# Altium footprint library PCB_Library.PcbLib: 26 footprints (part 1 of 2)
Each footprint in its own frame and in the unit in brackets; x right, y up, seen from the top. Pads: shape width x height; smd on the part's side, far side on the other; paste and mask are expansions set on the pad; w line width, h text height; cw(c..) or ccw(c..) is an arc to the next point about the centre after c.
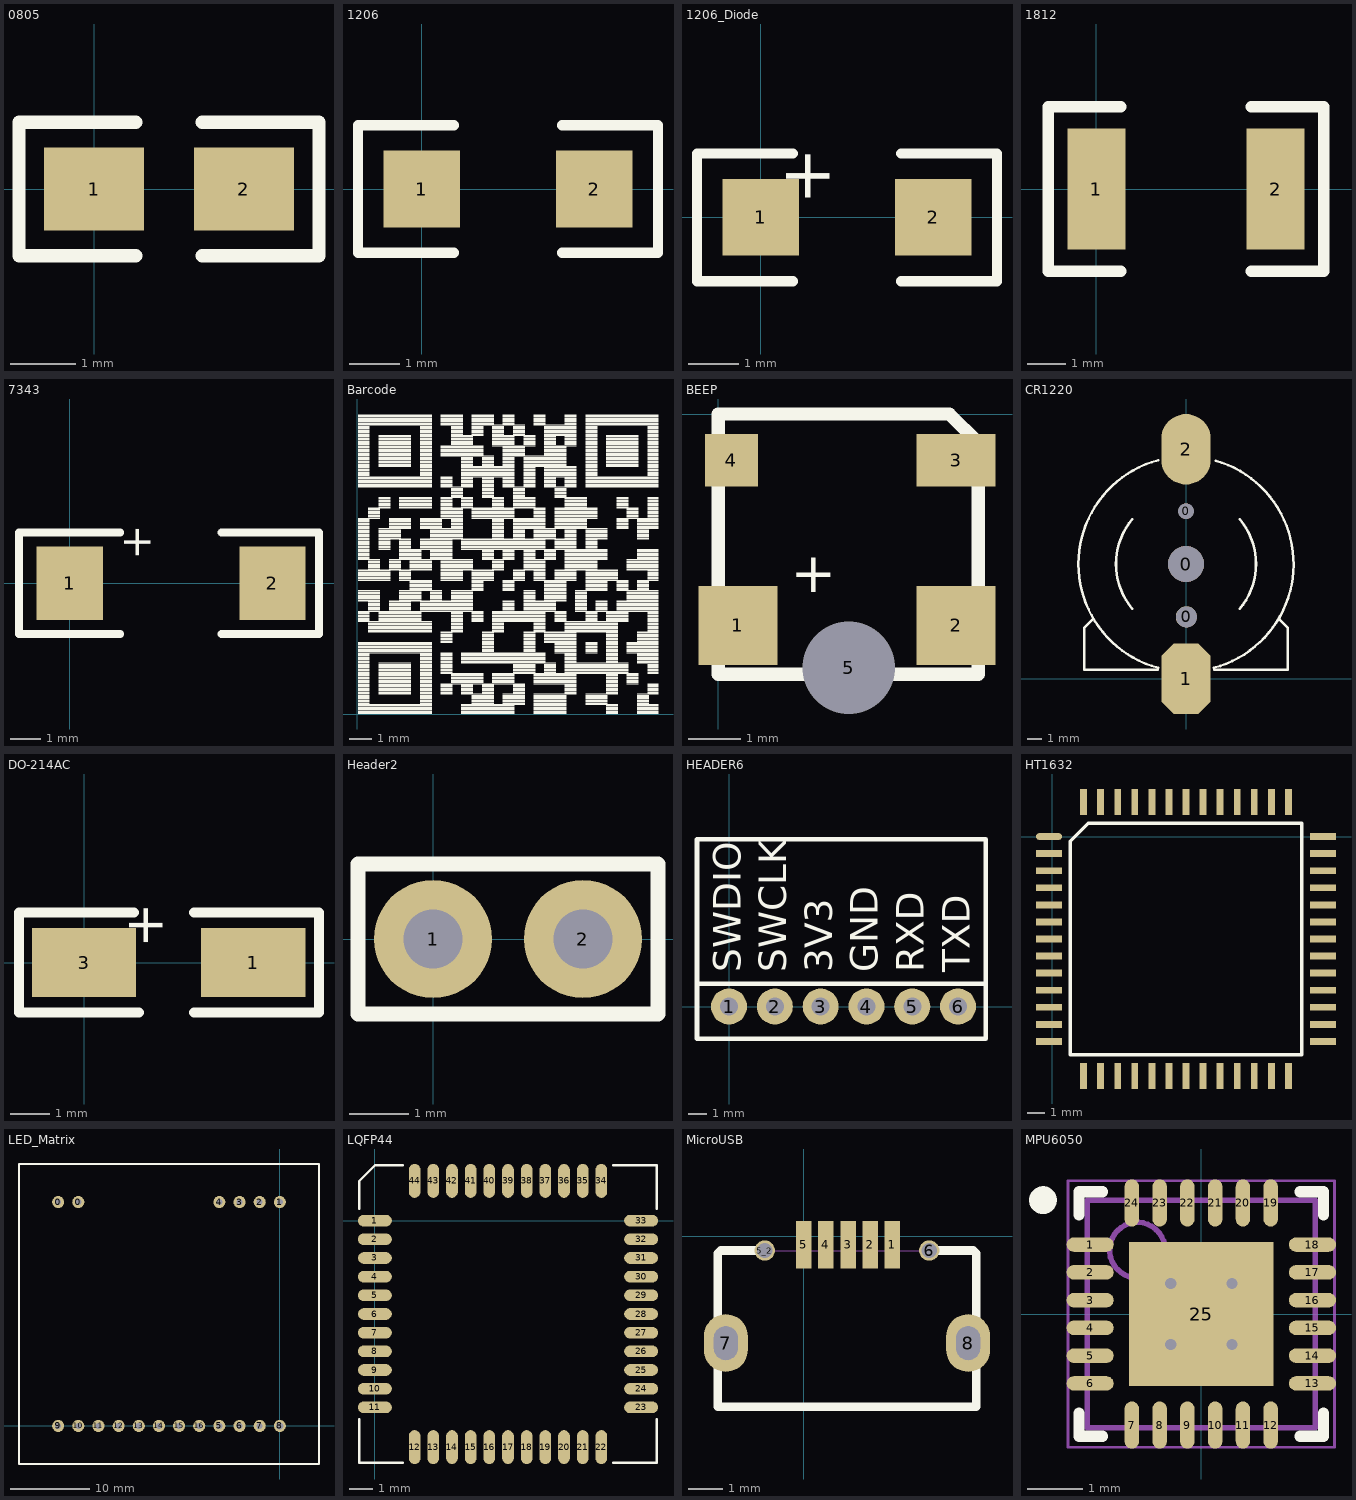
[diagram p0: the footprints below, top view; thin cyan lines are the x and y axes]

## 0805 [mil]
pads (2):
  rect 60x50 smd: 1(0,0) 2(90,0)
Top Overlay:
  lines w8: 25,-40 -45,-40 -45,40 25,40 ; 65,-40 135,-40 135,40 65,40

## 1206 [mil]
pads (2):
  rect 60x60 smd: 1(0,0) 2(135,0)
Top Overlay:
  lines w8: 25,-50 -50,-50 -50,50 25,50 ; 110,-50 185,-50 185,50 110,50

## 1206_Diode [mil]
pads (2):
  rect 60x60 smd: 1(0,0) 2(135,0)
Top Overlay:
  lines w8: 25,-50 -50,-50 -50,50 25,50 ; 110,-50 185,-50 185,50 110,50
  text "+" at 20,55 h39.37

## 1812 [mil]
pads (2):
  rect 60x125 smd: 1(0,0) 2(185,0)
Top Overlay:
  lines w12: 25,-85 -50,-85 -50,85 25,85 ; 160,-85 235,-85 235,85 160,85

## 7343 [mm]
pads (2):
  rect 2.16x2.41 smd: 1(0,0) 2(6.61,0)
Top Overlay:
  lines w0.254: 1.651,-1.651 -1.651,-1.651 -1.651,1.651 1.651,1.651 ; 4.953,-1.651 8.128,-1.651 8.128,1.651 4.953,1.651
  text "+" at 1.778,1.905 h1

## Barcode [mm]
Top Overlay:
  drawing of 2025 lines, arcs and shapes, not listed

## BEEP [mil]
pads (5):
  rect 60x60 smd: 1(15,-160) 2(180,-160)
  rect 60x40 smd: 3(180,-35)
  rect 40x40 smd: 4(10,-35)
  round 40 hole 70: 5(99,-192)
Top Overlay:
  lines w10: 0,-196.85 0,0 175,0 196.85,-21.85 196.85,-196.85 0,-196.85
  text "+" at 55,-135 h30

## CR1220 [mm]
pads (5):
  round 2.54 hole 2.54: 0(-0.01,8.13)
  round 1.1 hole 1.1: 0(-0.01,11.88)
  round 1.5 hole 1.5: 0(0.015,4.38)
  oct 3.5x5 smd: 1(-0.01,0.002)
  oval 3.5x5 smd: 2(-0.01,16.258)
Top Overlay:
  lines w0.178: -6.61,4.23 -7.21,3.63 -7.21,0.63 -2.01,0.63 ; -3.824,4.96 cw(c-0.01,8.13) -3.822,11.302 ; -1.973,0.767 cw(c-0.01,8.13) -7.63,8.13 cw(c-0.01,8.13) -1.973,15.492 ; 1.954,0.767 ccw(c-0.01,8.13) 2.084,15.456 ; 1.99,0.63 7.19,0.63 7.19,3.63 6.615,4.205 ; 3.8,4.955 ccw(c-0.01,8.13) 3.803,11.302

## DO-214AC [mm]
pads (2):
  rect 2.65x1.75 smd: 1(4.3,0) 3(0,0)
Top Overlay:
  lines w0.254: 1.27,1.27 -1.651,1.27 -1.651,-1.27 1.397,-1.27 ; 2.794,-1.27 5.969,-1.27 5.969,1.27 2.794,1.27
  text "+" at 1.143,1.524 h1

## Header2 [mm]
pads (2):
  round 2 hole 1: 1(0,0) 2(2.54,0)
Top Overlay:
  lines w0.254: -1.27,-1.27 -1.27,1.27 3.81,1.27 3.81,-1.27 -1.27,-1.27

## HEADER6 [mm]
pads (6):
  round 2 hole 1: 1(0,0) 2(2.54,0) 3(5.08,0) 4(7.62,0) 5(10.16,0) 6(12.7,0)
Top Overlay:
  lines w0.254: 14.224,1.016 14.224,9.271 -1.778,9.271 -1.778,1.27 ; -1.778,1.27 -1.778,-1.778 14.224,-1.778 14.224,1.27 -1.778,1.27
  text "SWDIO" at 0.635,1.905 h1.52
  text "GND" at 8.255,1.905 h1.52
  text "SWCLK" at 3.175,1.905 h1.52
  text "3V3" at 5.715,1.905 h1.52
  text "RXD" at 10.795,1.905 h1.52
  text "TXD" at 13.335,1.905 h1.52

## HT1632 [mm]
pads (52):
  oval 1.524x0.4 smd: 1(-0.2,0)
  rect 1.524x0.4 smd: 2(-0.2,-1) 3(-0.2,-2) 4(-0.2,-3) 5(-0.2,-4) 6(-0.2,-5) 7(-0.2,-6) 8(-0.2,-7) 9(-0.2,-8) 10(-0.2,-9) 11(-0.2,-10) 12(-0.2,-11) 13(-0.2,-12) 27(15.84,-12) 28(15.84,-11) 29(15.84,-10) 30(15.84,-9) 31(15.84,-8) 32(15.84,-7) 33(15.84,-6) 34(15.84,-5) 35(15.84,-4) 36(15.84,-3) 37(15.84,-2) 38(15.84,-1) 39(15.84,0)
  rect 0.4x1.524 smd: 14(1.82,-14.02) 15(2.82,-14.02) 16(3.82,-14.02) 17(4.82,-14.02) 18(5.82,-14.02) 19(6.82,-14.02) 20(7.82,-14.02) 21(8.82,-14.02) 22(9.82,-14.02) 23(10.82,-14.02) 24(11.82,-14.02) 25(12.82,-14.02) 26(13.82,-14.02) 40(13.82,2.02) 41(12.82,2.02) 42(11.82,2.02) 43(10.82,2.02) 44(9.82,2.02) 45(8.82,2.02) 46(7.82,2.02) 47(6.82,2.02) 48(5.82,2.02) 49(4.82,2.02) 50(3.82,2.02) 51(2.82,2.02) 52(1.82,2.02)
Top Overlay:
  lines w0.2: 1.05,-12.77 1.05,-0.28 2.1,0.77 14.59,0.77 14.59,-12.77 1.05,-12.77

## LED_Matrix [mil]
pads (18):
  round 60 hole 30: 0(-1100,1110.24) 0(-1000,1110.24) 1(0,1110.24) 2(-100,1110.24) 3(-200,1110.24) 4(-300,1110.24) 5(-300,0) 6(-200,0) 7(-100,0) 9(-1100,0) 10(-1000,0) 11(-900,0) 12(-800,0) 13(-700,0) 14(-600,0) 15(-500,0) 16(-400,0)
  round 60 hole 36: 8(0,0)
Top Overlay:
  lines w10: -1294.09,-188.98 -1100,-188.98 194.09,-188.98 194.09,0 194.09,1299.21 0,1299.21 -1294.09,1299.21 -1294.09,1100 -1294.09,-188.98

## LQFP44 [mm]
pads (44):
  oval 1.45x0.5 smd: 1(0,0) 2(0,-0.8) 3(0,-1.6) 4(0,-2.4) 5(0,-3.2) 6(0,-4) 7(0,-4.8) 8(0,-5.6) 9(0,-6.4) 10(0,-7.2) 11(0,-8) 23(11.4,-8) 24(11.4,-7.2) 25(11.4,-6.4) 26(11.4,-5.6) 27(11.4,-4.8) 28(11.4,-4) 29(11.4,-3.2) 30(11.4,-2.4) 31(11.4,-1.6) 32(11.4,-0.8) 33(11.4,0)
  oval 0.5x1.45 smd: 12(1.7,-9.7) 13(2.5,-9.7) 14(3.3,-9.7) 15(4.1,-9.7) 16(4.9,-9.7) 17(5.7,-9.7) 18(6.5,-9.7) 19(7.3,-9.7) 20(8.1,-9.7) 21(8.9,-9.7) 22(9.7,-9.7) 34(9.7,1.7) 35(8.9,1.7) 36(8.1,1.7) 37(7.3,1.7) 38(6.5,1.7) 39(5.7,1.7) 40(4.9,1.7) 41(4.1,1.7) 42(3.3,1.7) 43(2.5,1.7) 44(1.7,1.7)
Top Overlay:
  lines w0.1: -0.675,-8.5 -0.675,-10.375 1.2,-10.375 ; -0.675,0.5 -0.675,1.7 0,2.375 1.2,2.375 ; 10.2,-10.375 12.075,-10.375 12.075,-8.5 ; 10.2,2.375 12.075,2.375 12.075,0.5

## MicroUSB [mm]
height 2.997
pads (9):
  rect 0.457x1.397 smd: 1(2.6,-0.254) 2(1.95,-0.254) 3(1.3,-0.254) 4(0.65,-0.254) 5(0,-0.254)
  round 0.6 hole 0.45: 5_2(-1.155,-0.42) 6(3.695,-0.42)
  oval 1.3x1.7 hole 0.7 slot 1 at 90 deg: 7(-2.305,-3.15) 8(4.845,-3.15)
Top Overlay:
  lines w0.254: -2.305,-3.15 -2.54,-2.915 ; -1.155,-0.42 -2.452,-0.42 -2.54,-0.508 -2.54,-2.915 ; 3.695,-0.42 4.992,-0.42 5.08,-0.508 5.08,-3.15 ; 5.131,-2.667 5.08,-2.718 5.08,-5.029 -1.915,-5.029 -2.54,-5.029 -2.54,-2.915
Mechanical 1:
  lines w0: -2.497,-5.029 -2.497,-0.432 5.097,-0.432 5.097,-5.029 -2.497,-5.029

## MPU6050 [mm] "QFN, 24-Leads, Body 4.00x4.00mm, Pitch 0.50mm, Thermal Pad 2.60x2.60mm, IPC Medium Density"
height 0.95
pads (25):
  oval 0.85x0.26 smd: 1(-2,1.25) 2(-2,0.75) 3(-2,0.25) 4(-2,-0.25) 5(-2,-0.75) 6(-2,-1.25) 13(2,-1.25) 14(2,-0.75) 15(2,-0.25) 16(2,0.25) 17(2,0.75) 18(2,1.25)
  oval 0.26x0.85 smd: 7(-1.25,-2) 8(-0.75,-2) 9(-0.25,-2) 10(0.25,-2) 11(0.75,-2) 12(1.25,-2) 19(1.25,2) 20(0.75,2) 21(0.25,2) 22(-0.25,2) 23(-0.75,2) 24(-1.25,2)
  rect 2.6x2.6 smd: 25(0,0)
via -0.55,0.55 diameter 0.5 hole 0.2
via 0.55,0.55 diameter 0.5 hole 0.2
via -0.55,-0.55 diameter 0.5 hole 0.2
via 0.55,-0.55 diameter 0.5 hole 0.2
Top Overlay:
  circle w0.25: c-2.85,2.05 r0.125
  lines w0.2: -2.2,-1.78 -2.2,-2.2 -1.78,-2.2 ; -2.2,1.78 -2.2,2.2 -1.78,2.2 ; 1.78,-2.2 2.2,-2.2 2.2,-1.78 ; 1.78,2.2 2.2,2.2 2.2,1.78
Mechanical 13:
  circle w0.1: c-1.15,1.15 r0.5
  lines w0.1: -2.05,-2.05 -2.05,2.05 2.05,2.05 2.05,-2.05 -2.05,-2.05
Mechanical 15:
  lines w0.05: -2.4,-2.4 -2.4,2.4 2.4,2.4 2.4,-2.4 -2.4,-2.4
  lines w0.1: -0.5,0 0.5,0 ; 0,-0.5 0,0.5
3D body: height 0.95, standoff 0, extent -2.05,-2.05 2.05,2.05